# EAGLE library part FH12-10S-0.5SH(1)(98) (library FH12-10S-0.5SH(1)(98))
FFC & FPC Connectors 10P SMT HORIZONTAL .5MM PITCH Source: Datasheet <https://www.hirose.com/product/en/download_file/key_name/FH12-10S-0.5SH(1)(98)/category/Drawing (2D)/doc_file_id/144497/?file_category_id=6&item_id=05280003598&is_series=>
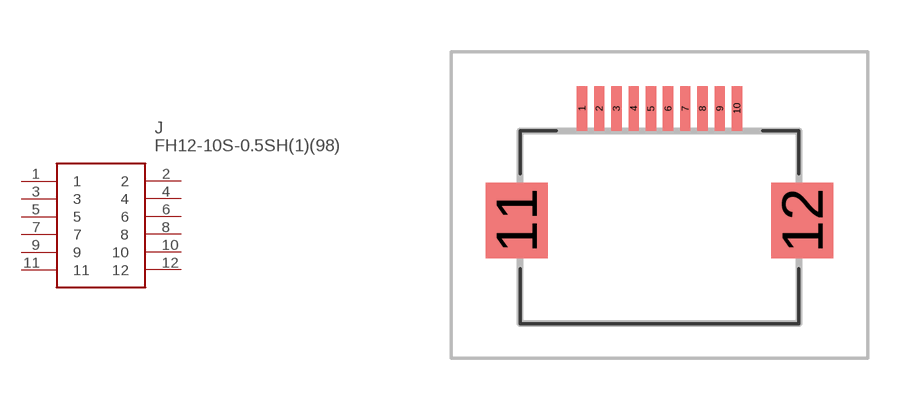
[diagram p0: symbol with the pads of FH1210S05SH198; footprint FH1210S05SH198]

Designator prefix J

## FH12-10S-0.5SH(1)(98) (Description: FFC & FPC Connectors 10P SMT HORIZONTAL .5MM PITCH; Height: 2mm; Manufacturer_Name: Hirose; Manufacturer_Part_Number: FH12-10S-0.5SH(1)(98); Mouser_Part_Number: 798-FH1210S05SH198; Mouser_Price-Stock: https://www.mouser.com/Search/Refine.aspx?Keyword=798-FH1210S05SH198)  [FH1210S05SH198]
1  1
2  2
3  3
4  4
5  5
6  6
7  7
8  8
9  9
10  10
11  11
12  12

## Footprint FH1210S05SH198 (pad centres in mm)
FH12-10S-0.5SH(1)(98)
smd 0.3 x 1.3: 1 -2.25,2.8; 2 -1.75,2.8; 3 -1.25,2.8; 4 -0.75,2.8; 5 -0.25,2.8; 6 0.25,2.8; 7 0.75,2.8; 8 1.25,2.8; 9 1.75,2.8; 10 2.25,2.8
smd 1.8 x 2.2: 11 -4.15,-0.45; 12 4.15,-0.45